# EAGLE library part 416131160808 (library Eagle_Wuerth_Elektronik_Switch)
WS-HP-1.27 mm small compact SMD Dip Switch with top tape,16 pins,8 poles
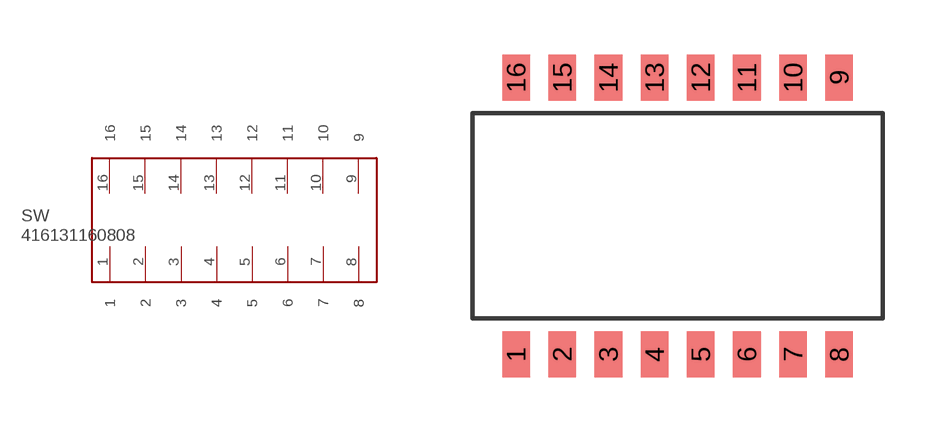
[diagram p27: symbol with the pads of 416131160808; footprint 416131160808]

Designator prefix SW

## 416131160808  [416131160808]
1  1
2  2
3  3
4  4
5  5
6  6
7  7
8  8
9  9
10  10
11  11
12  12
13  13
14  14
15  15
16  16

## Footprint 416131160808 (pad centres in mm)
WS-HP-1.27 mm small compact SMD Dip Switch with top tape,16 pins,8 poles
smd 0.76 x 1.27: 1 0,-3.81; 2 1.27,-3.81; 3 2.54,-3.81; 4 3.81,-3.81; 5 5.08,-3.81; 6 6.35,-3.81; 7 7.62,-3.81; 8 8.89,-3.81; 9 8.89,3.81; 10 7.62,3.81; 11 6.35,3.81; 12 5.08,3.81; 13 3.81,3.81; 14 2.54,3.81; 15 1.27,3.81; 16 0,3.81